# Altium footprint library AMASS_XT30-M.PcbLib: 1 footprints
Each footprint in its own frame and in the unit in brackets; x right, y up, seen from the top. Pads: shape width x height; smd on the part's side, far side on the other; paste and mask are expansions set on the pad; w line width, h text height; cw(c..) or ccw(c..) is an arc to the next point about the centre after c.
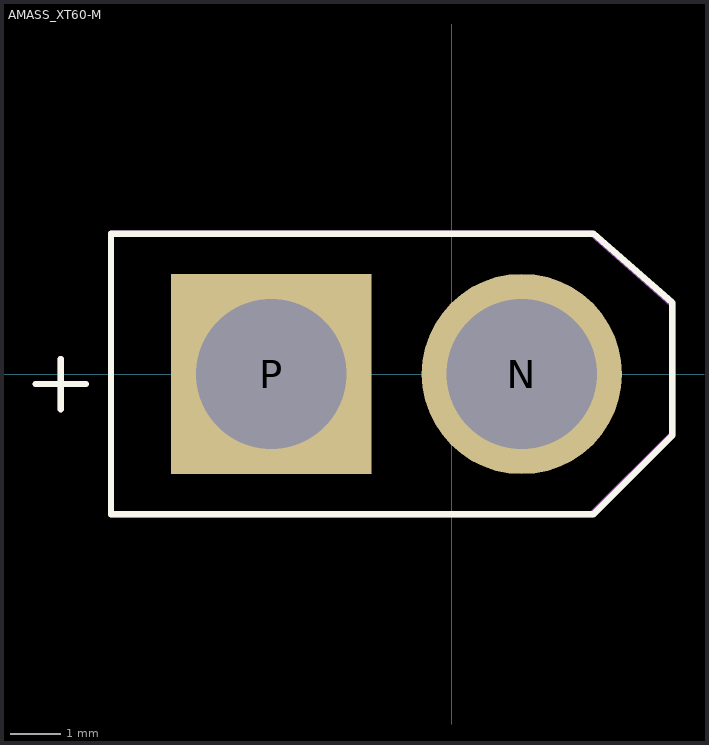
[diagram p0: the footprint, top view; thin cyan lines are the x and y axes]

## AMASS_XT60-M [mm]
height 16
pads (2):
  round 4 hole 3: N(1.4,0)
  rect 4x4 hole 3: P(-3.6,0)
Top Overlay:
  lines w0.127: -8.3,-0.2 -7.3,-0.2 ; -7.8,-0.7 -7.8,0.3 ; -6.8,-2.8 -6.8,2.8 2.829,2.8 4.4,1.425 4.4,-1.2 4.4,-1.229 2.829,-2.8 -6.8,-2.8
Mechanical 13:
  lines w0.127: -8.3,-0.2 -7.3,-0.2 ; -7.8,-0.7 -7.8,0.3 ; -6.8,-2.8 -6.8,2.8 2.8,2.8 4.4,1.4 4.4,-0.8 4.4,-1.2 2.8,-2.8 -6.8,-2.8